# EAGLE library part MCP1710 (library MCP1710T)
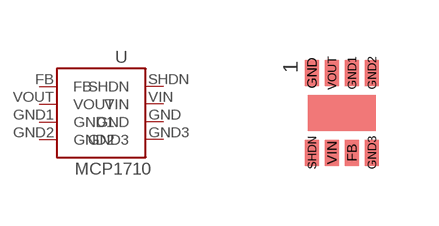
[diagram p138: symbol with the pads of DFN-2X2; footprint DFN-2X2]

Designator prefix -

## MCP1710  [DFN-2X2]
FB  FB  in
GND  GND  pwr
GND1  GND1  pwr
GND2  GND2  pwr
GND3  GND3  pwr
SHDN  SHDN  in
VIN  VIN  in
VOUT  VOUT  out

## Footprint DFN-2X2 (pad centres in mm)
smd 0.35 x 0.65: FB 1,0; GND 0,2; GND1 1,2; GND2 1.5,2; GND3 1.5,0; SHDN 0,0; VIN 0.5,0; VOUT 0.5,2